# Altium footprint library yousefIbrahim&ZyadTarekPCB1.PcbLib: 18 footprints (part 1 of 2)
Each footprint in its own frame and in the unit in brackets; x right, y up, seen from the top. Pads: shape width x height; smd on the part's side, far side on the other; paste and mask are expansions set on the pad; w line width, h text height; cw(c..) or ccw(c..) is an arc to the next point about the centre after c.
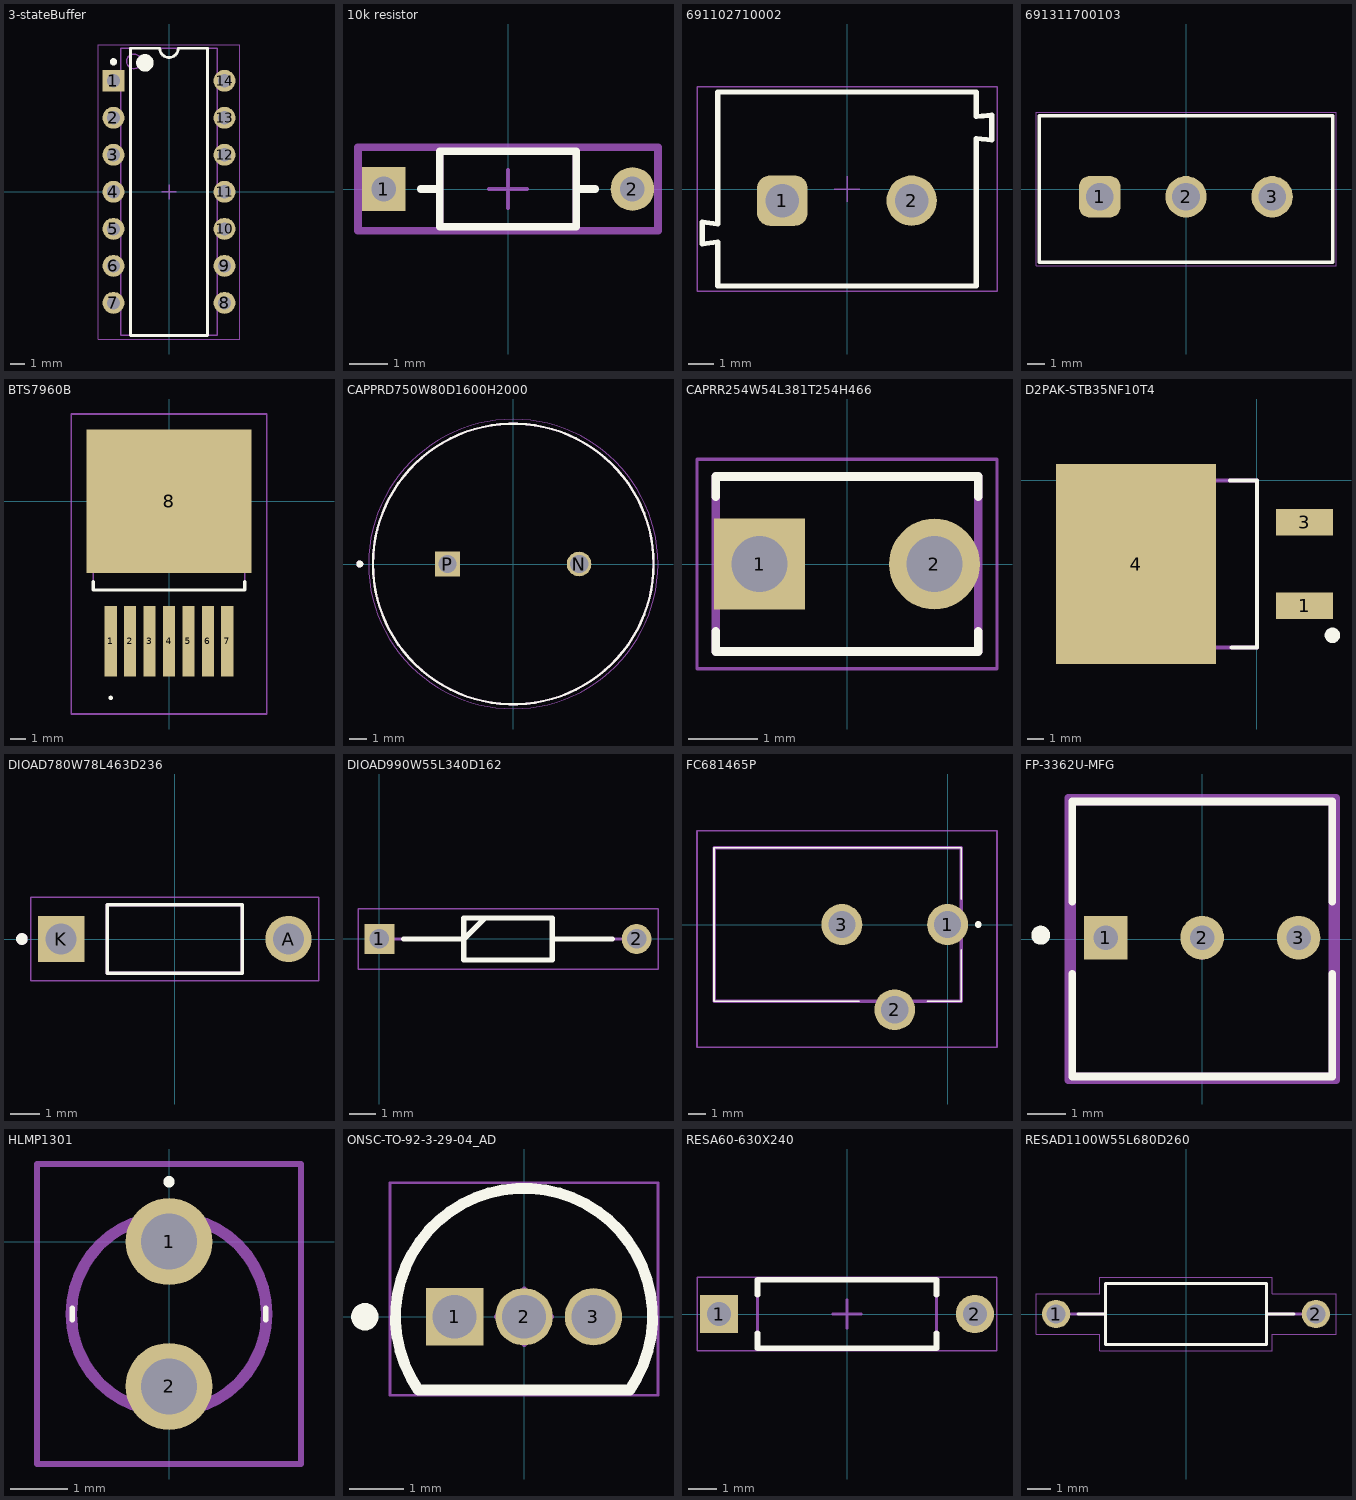
[diagram p0: the footprints below, top view; thin cyan lines are the x and y axes]

## 3-stateBuffer [mm]
pads (14):
  rect 1.5x1.5 hole 0.9: 1(-3.81,7.62)
  round 1.5 hole 0.9: 2(-3.81,5.08) 3(-3.81,2.54) 4(-3.81,0) 5(-3.81,-2.54) 6(-3.81,-5.08) 7(-3.81,-7.62) 8(3.81,-7.62) 9(3.81,-5.08) 10(3.81,-2.54) 11(3.81,0) 12(3.81,2.54) 13(3.81,5.08) 14(3.81,7.62)
Top Overlay:
  circle w0.25: c-3.81,8.92 r0.125
  circle w0.6: c-1.65,8.85 r0.3
  lines w0.2: -2.65,-9.85 -2.65,9.85 -0.635,9.85 ccw(c0,9.85) 0.635,9.85 2.65,9.85 2.65,-9.85 -2.65,-9.85
Mechanical 1:
  text ".Designator" at -3.048,-0.508 h1.2
Mechanical 13:
  circle w0.1: c-2.4,8.95 r0.5
  lines w0.1: -3.3,-9.85 -3.3,9.85 3.3,9.85 3.3,-9.85 -3.3,-9.85
Mechanical 15:
  lines w0.05: -4.85,-10.1 -4.85,10.1 4.85,10.1 4.85,-10.1 -4.85,-10.1
  lines w0.1: -0.5,0 0.5,0 ; 0,-0.5 0,0.5
3D body: height 2.66, standoff 0, extent -3.945,7.12 -3.675,8.12
3D body: height 2.93, standoff 2.66, extent -3.945,7.12 -3.3,8.12
3D body: height 0, standoff -1.6, extent -3.945,7.26 -3.675,7.98
3D body: height 2.66, standoff 0, extent -3.945,4.58 -3.675,5.58
3D body: height 2.93, standoff 2.66, extent -3.945,4.58 -3.3,5.58
3D body: height 0, standoff -1.6, extent -3.945,4.72 -3.675,5.44
3D body: height 2.66, standoff 0, extent -3.945,2.04 -3.675,3.04
3D body: height 2.93, standoff 2.66, extent -3.945,2.04 -3.3,3.04
3D body: height 0, standoff -1.6, extent -3.945,2.18 -3.675,2.9
3D body: height 2.66, standoff 0, extent -3.945,-0.5 -3.675,0.5
3D body: height 2.93, standoff 2.66, extent -3.945,-0.5 -3.3,0.5
3D body: height 0, standoff -1.6, extent -3.945,-0.36 -3.675,0.36
3D body: height 2.66, standoff 0, extent -3.945,-3.04 -3.675,-2.04
3D body: height 2.93, standoff 2.66, extent -3.945,-3.04 -3.3,-2.04
3D body: height 0, standoff -1.6, extent -3.945,-2.9 -3.675,-2.18
3D body: height 2.66, standoff 0, extent -3.945,-5.58 -3.675,-4.58
3D body: height 2.93, standoff 2.66, extent -3.945,-5.58 -3.3,-4.58
3D body: height 0, standoff -1.6, extent -3.945,-5.44 -3.675,-4.72
3D body: height 2.66, standoff 0, extent -3.945,-8.12 -3.675,-7.12
3D body: height 2.93, standoff 2.66, extent -3.945,-8.12 -3.3,-7.12
3D body: height 0, standoff -1.6, extent -3.945,-7.98 -3.675,-7.26
3D body: height 2.66, standoff 0, extent 3.675,-8.12 3.945,-7.12
3D body: height 2.93, standoff 2.66, extent 3.3,-8.12 3.945,-7.12
3D body: height 0, standoff -1.6, extent 3.675,-7.98 3.945,-7.26
3D body: height 2.66, standoff 0, extent 3.675,-5.58 3.945,-4.58
3D body: height 2.93, standoff 2.66, extent 3.3,-5.58 3.945,-4.58
3D body: height 0, standoff -1.6, extent 3.675,-5.44 3.945,-4.72
3D body: height 2.66, standoff 0, extent 3.675,-3.04 3.945,-2.04
3D body: height 2.93, standoff 2.66, extent 3.3,-3.04 3.945,-2.04
3D body: height 0, standoff -1.6, extent 3.675,-2.9 3.945,-2.18
3D body: height 2.66, standoff 0, extent 3.675,-0.5 3.945,0.5
3D body: height 2.93, standoff 2.66, extent 3.3,-0.5 3.945,0.5
3D body: height 0, standoff -1.6, extent 3.675,-0.36 3.945,0.36
3D body: height 2.66, standoff 0, extent 3.675,2.04 3.945,3.04
3D body: height 2.93, standoff 2.66, extent 3.3,2.04 3.945,3.04
3D body: height 0, standoff -1.6, extent 3.675,2.18 3.945,2.9
3D body: height 2.66, standoff 0, extent 3.675,4.58 3.945,5.58
3D body: height 2.93, standoff 2.66, extent 3.3,4.58 3.945,5.58
3D body: height 0, standoff -1.6, extent 3.675,4.72 3.945,5.44
3D body: height 2.66, standoff 0, extent 3.675,7.12 3.945,8.12
3D body: height 2.93, standoff 2.66, extent 3.3,7.12 3.945,8.12
3D body: height 0, standoff -1.6, extent 3.675,7.26 3.945,7.98
3D body: height 5.08, standoff 0.51, extent -3.3,-9.85 3.3,9.85

## 10k resistor [mm]
pads (2):
  rect 1.15x1.15 hole 0.65 paste-2539.97 mask+0: 1(-3.28,0)
  round 1.15 hole 0.65 paste-2539.97 mask+0: 2(3.28,0)
Top Overlay:
  lines w0.2: -2.305,0 -1.8,0 ; 1.8,0 2.305,0 ; -1.8,-1 -1.8,1 1.8,1 1.8,-1 -1.8,-1
Top 3D Body:
  lines w0.2: -1.8,-1 -1.8,1 1.8,1 1.8,-1 -1.8,-1
Top Courtyard:
  lines w0.2: -3.955,-1.1 -3.955,1.1 3.955,1.1 3.955,-1.1 -3.955,-1.1
Top Assembly:
  lines w0.2: -3.955,-1.1 -3.955,1.1 3.955,1.1 3.955,-1.1 -3.955,-1.1
  text ".Designator" at 0,0.188 h1
Top Component Center:
  lines w0.1: -0.5,0 0.5,0 ; 0,-0.5 0,0.5
3D body "Res_Stackpole_Electronics_CF18JT10K0_eec.STEP": height 0.25, standoff 0, extent -3.955,-1.1 3.955,1.1

## 691102710002 [mm]
pads (2):
  rrect50% 1.95x1.95 hole 1.3: 1(-2.5,-0.45)
  round 1.95 hole 1.3: 2(2.5,-0.45)
Top Overlay:
  lines w0.2: -5.6,-2.125 -5,-2.05 -5,-3.75 5,-3.75 5,1.95 5.6,1.9 5.6,2.85 5,2.8 5,3.75 -5,3.75 -5,-1.35 -5.6,-1.275 -5.6,-2.125
Top 3D Body:
  lines w0.1: -5.6,-2.125 -5,-2.05 -5,-3.75 5,-3.75 5,1.95 5.6,1.9 5.6,2.85 5,2.8 5,3.75 -5,3.75 -5,-1.35 -5.6,-1.275 -5.6,-2.125
Top Courtyard:
  lines w0.05: -5.8,-3.95 5.8,-3.95 5.8,3.95 -5.8,3.95 -5.8,-3.95
Top Designator:
  text ".Designator" at -7.498,-0.5 h1.5
Top Component Outline:
  lines w0.1: -5.6,-2.125 -5.6,-1.275 -5,-1.35 -5,3.75 5,3.75 5,2.8 5.6,2.85 5.6,1.9 5,1.95 5,-3.75 -5,-3.75 -5,-2.05 -5.6,-2.125
Top Component Center:
  lines w0.05: -0.5,0 0.5,0 ; 0,-0.5 0,0.5
3D body "691102710002.stp": height 9.96, standoff -3.44, extent -5.6,-3.75 5.6,3.75

## 691311700103 [mm]
pads (3):
  rrect50% 2.4x2.4 hole 1.6: 1(-5,-0.45)
  round 2.4 hole 1.6: 2(0,-0.45) 3(5,-0.45)
Top Overlay:
  lines w0.2: -8.5,-4.25 8.5,-4.25 8.5,4.25 -8.5,4.25 -8.5,-4.25
Top 3D Body:
  lines w0.1: -8.5,-4.25 8.5,-4.25 8.5,4.25 -8.5,4.25 -8.5,-4.25
Top Courtyard:
  lines w0.05: -8.7,-4.45 -8.7,4.45 8.7,4.45 8.7,-4.45 -8.7,-4.45
Top Designator:
  text ".Designator" at -7.498,-0.5 h1.5
Top Component Outline:
  lines w0.1: -8.5,-4.25 -8.5,4.25 8.5,4.25 8.5,-4.25 -8.5,-4.25
Top Component Center:
  lines w0.05: -0.5,0 0.5,0 ; 0,-0.5 0,0.5
3D body "691311700103.stp": height 12.1, standoff -3.9, extent -8.5,-4.25 8.5,4.25

## BTS7960B [mm]
pads (8):
  rect 0.8x4.6 smd: 1(-3.81,-9.15) 2(-2.54,-9.15) 3(-1.27,-9.15) 4(0,-9.15) 5(1.27,-9.15) 6(2.54,-9.15) 7(3.81,-9.15)
  rect 10.8x9.4 smd: 8(0,0)
Top Overlay:
  lines w0.2: -3.81,-12.9 ccw(c-3.81,-12.85) -3.81,-12.8 ; -3.81,-12.9 cw(c-3.81,-12.85) -3.81,-12.8 ; -3.81,-12.9 ccw(c-3.81,-12.85) -3.81,-12.8 ; 4.95,-5.8 -4.95,-5.8 4.95,-5.8 ; 4.95,-5.8 4.95,-5.25 4.95,-5.8 ; -4.95,-5.75 -4.95,-5.25 -4.95,-5.75
Mechanical 13:
  lines w0.1: -4.95,-5.8 4.95,-5.8 4.95,3.4 -4.95,3.4 -4.95,-5.8
Mechanical 15:
  lines w0.1: -6.4,-13.9 6.4,-13.9 6.4,5.7 -6.4,5.7 -6.4,-13.9
3D body "BTS7960B.stp": height 4.4, standoff 0, extent -4.95,-10.74 4.95,4.16

## CAPPRD750W80D1600H2000 [mm]
pads (2):
  round 1.4 hole 1.05: N(3.75,0)
  rect 1.4x1.4 hole 1.05: P(-3.75,0)
Top Overlay:
  circle w0.2: c-8.75,0 r0.1
  circle w0.127: c0,0 r8
Mechanical 13:
  circle w0.2: c-8.75,0 r0.1
  circle w0.127: c0,0 r8
Mechanical 15:
  circle w0.05: c0,0 r8.25
3D body "step_temp.STEP": height 20, standoff -17, extent -8,-7.999 8,7.999

## CAPRR254W54L381T254H466 [mm]
pads (2):
  rect 1.318x1.318 / inner round 1.318 / far side rect 1.318x1.318 hole 0.81: 1(-1.27,0)
  round 1.318 hole 0.81: 2(1.27,0)
Top Overlay:
  lines w0.127: -1.905,-0.979 -1.905,-1.27 1.905,-1.27 1.905,-0.979 ; -1.905,0.979 -1.905,1.27 1.905,1.27 1.905,0.979
Mechanical 13:
  lines w0.127: -1.905,-1.27 1.905,-1.27 1.905,1.27 -1.905,1.27 -1.905,-1.27
Mechanical 15:
  lines w0.05: -2.179,-1.52 2.179,-1.52 2.179,1.52 -2.179,1.52 -2.179,-1.52

## D2PAK-STB35NF10T4 [mm]
pads (3):
  rect 3.5x1.6 smd: 1(2.904,-7.64) 3(2.904,-2.56)
  rect 9.75x12.2 smd: 4(-7.371,-5.1)
Top Overlay:
  circle w0.5: c4.603,-9.449 r0.219
  lines w0.254: -1.644,0 0,0 0,-10.2 -1.535,-10.2
Mechanical 13:
  lines w0.254: -9.15,-10.2 -9.15,0 0,0 0,-10.2 -9.15,-10.2
3D body "L7805ABD2T-TR.stp": height 4.6, standoff 0, extent -11.645,-10.282 4.247,0.082

## DIOAD780W78L463D236 [mm]
pads (2):
  round 1.59 hole 1.06: A(3.905,0)
  rect 1.59x1.59 / inner round 1.59 / far side rect 1.59x1.59 hole 1.06: K(-3.905,0)
Top Overlay:
  circle w0.2: c-5.25,0 r0.1
  lines w0.127: -2.318,-1.18 -2.318,1.18 2.318,1.18 2.318,-1.18 -2.318,-1.18
Mechanical 13:
  circle w0.2: c-5.25,0 r0.1
  lines w0.127: -2.318,-1.18 -2.318,1.18 2.318,1.18 2.318,-1.18 -2.318,-1.18
Mechanical 15:
  lines w0.05: -4.949,-1.43 4.949,-1.43 4.949,1.43 -4.949,1.43 -4.949,-1.43
3D body "step_temp.STEP": height 2.69, standoff -21.77, extent -5.474,-1.346 5.474,1.346

## DIOAD990W55L340D162 [mm]
pads (2):
  rect 1.15x1.15 hole 0.75: 1(0,0)
  round 1.15 hole 0.75: 2(9.9,0)
Top Overlay:
  lines w0.2: 0.925,0 3.25,0 4.062,0.812 ; 6.65,0 8.975,0 ; 3.25,-0.812 3.25,0.812 6.65,0.812 6.65,-0.812 3.25,-0.812
Mechanical 13:
  lines w0.1: 0,0 3.25,0 4.062,0.812 ; 6.65,0 9.9,0 ; 3.25,-0.813 3.25,0.812 6.65,0.812 6.65,-0.813 3.25,-0.813
Mechanical 15:
  lines w0.05: -0.825,-1.163 -0.825,1.162 10.725,1.162 10.725,-1.163 -0.825,-1.163
3D body "1N4148B.stp": height 1.75, standoff -1.75, extent -0.275,-0.869 10.175,0.869

## FC681465P [mm]
pads (3):
  round 2.4 hole 1.6: 1(0,0) 2(-3.1,-5) 3(-6.2,0)
Top Overlay:
  lines w0.1: -5.2,-4.5 -13.7,-4.5 -13.7,4.5 0.8,4.5 0.8,1.5 ; -1.2,-4.5 0.8,-4.5 0.8,-1.5
  lines w0.2: 1.8,-0.1 cw(c1.8,0) 1.8,0.1 cw(c1.8,0) 1.8,-0.1
Mechanical 13:
  lines w0.2: -13.7,-4.5 0.8,-4.5 0.8,4.5 -13.7,4.5 -13.7,-4.5
Mechanical 15:
  lines w0.1: -14.7,-7.2 2.9,-7.2 2.9,5.5 -14.7,5.5 -14.7,-7.2
3D body "FC681465P.stp": height 11.1, standoff -5, extent -13.7,-5.695 0.8,4.5

## FP-3362U-MFG [mm]
pads (3):
  rect 1.15x1.15 hole 0.65 paste-2539.97 mask+0: 1(-2.54,0.035)
  round 1.15 hole 0.65 paste-2539.97 mask+0: 2(0,0.035) 3(2.54,0.035)
Top Overlay:
  circle w0.25: c-4.25,0.1 r0.125
  lines w0.2: -3.425,-0.915 -3.425,-3.62 3.425,-3.62 3.425,-0.915 ; -3.425,0.985 -3.425,3.62 3.425,3.62 3.425,0.985
Top 3D Body:
  lines w0.2: -3.425,-3.62 3.425,-3.62 3.425,3.62 -3.425,3.62 -3.425,-3.62
Top Courtyard:
  lines w0.2: -3.525,-3.72 3.525,-3.72 3.525,3.72 -3.525,3.72 -3.525,-3.72
Top Assembly:
  lines w0.2: -3.525,-3.72 3.525,-3.72 3.525,3.72 -3.525,3.72 -3.525,-3.72
  text ".Designator" at 0,0 h1
Top Component Center:
  lines w0.1: -0.5,0 0.5,0 ; 0,-0.5 0,0.5
3D body "Res_Bourns_3362U-1-204LF_eec.STEP": height 0.25, standoff 0, extent -3.525,-3.72 3.525,3.72

## HLMP1301 [mil]
pads (2):
  round 60 hole 38.58: 1(0,0) 2(0,-100)
Top Overlay:
  lines w3.94: -66.93,-53.94 -66.93,-46.06 ; 66.93,-53.94 66.93,-46.06 ; 0,39.37 cw(c0,41.34) 0,43.31 cw(c0,41.34) 0,39.37
Mechanical 13:
  lines w7.87: 0,-117.52 ccw(c0,-50) 0,17.52 ccw(c0,-50) 0,-117.52
Mechanical 15:
  lines w3.94: -91.14,-153.62 -91.14,53.62 91.14,53.62 91.14,-153.62 -91.14,-153.62
3D body "HLMP-1301.stp": height 446.46, standoff -812.2, extent -67.52,-117.72 67.52,17.72

## ONSC-TO-92-3-29-04_AD [mm]
pads (3):
  rect 1.05x1.05 hole 0.8: 1(-1.27,0)
  round 1.05 hole 0.8: 2(0,0) 3(1.27,0)
Top Overlay:
  circle w0.25: c-2.911,0 r0.125
  lines w0.2: -1.933,-1.337 cw(c0,0) 1.933,-1.337 -1.933,-1.337
Mechanical 13:
  lines w0.1: -1.933,-1.337 cw(c0,0) 1.933,-1.337 ; -1.933,-1.335 1.933,-1.335
Mechanical 15:
  lines w0.05: -2.45,-1.435 -2.45,2.45 2.45,2.45 2.45,-1.435 -2.45,-1.435
  lines w0.1: -0.5,0 0.5,0 ; 0,-0.5 0,0.5
3D body: height 5.33, standoff 2.54, extent -2.357,-1.335 2.349,2.359

## RESA60-630X240 [mm]
pads (2):
  rect 1.35x1.35 hole 0.85: 1(-4.5,0)
  round 1.35 hole 0.85: 2(4.5,0)
Top Overlay:
  lines w0.2: -3.15,-0.674 -3.15,-1.2 3.15,-1.2 3.15,-0.674 ; -3.15,0.674 -3.15,1.2 3.15,1.2 3.15,0.674
Mechanical 13:
  lines w0.1: -3.15,-1.2 -3.15,1.2 3.15,1.2 3.15,-1.2 -3.15,-1.2
Mechanical 15:
  lines w0.05: -5.275,-1.3 5.275,-1.3 5.275,1.3 -5.275,1.3 -5.275,-1.3
  lines w0.1: -0.5,0 0.5,0 ; 0,-0.5 0,0.5
3D body: height 2.4, standoff 0, extent -3.15,-1.191 3.15,1.2
3D body: height 1.48, standoff 0.92, extent -4.775,-0.273 -4.225,0.273
3D body: height 1.47, standoff 0.92, extent -4.5,-0.275 -3.15,0.274
3D body: height 1.2, standoff -2, extent -4.773,-0.275 -4.225,0.274
3D body: height 1.2, standoff -2, extent 4.225,-0.274 4.773,0.275
3D body: height 1.47, standoff 0.92, extent 3.15,-0.274 4.5,0.275
3D body: height 1.48, standoff 0.92, extent 4.225,-0.273 4.775,0.273

## RESAD1100W55L680D260 [mm]
pads (2):
  round 1.2 hole 0.8: 1(-5.5,0) 2(5.5,0)
Top Overlay:
  lines w0.127: -4.58,0 -3.4,0 ; 4.58,0 3.4,0 ; -3.4,0 -3.4,1.3 3.4,1.3 3.4,0 ; -3.4,0 -3.4,-1.3 3.4,-1.3 3.4,0
Mechanical 13:
  lines w0.127: -4.9,0 -3.4,0 ; 4.9,0 3.4,0 ; -3.4,0 -3.4,1.3 3.4,1.3 3.4,0 ; -3.4,0 -3.4,-1.3 3.4,-1.3 3.4,0
Mechanical 15:
  lines w0.05: -6.35,-0.85 -3.65,-0.85 -3.65,-1.55 3.65,-1.55 3.65,-0.85 6.35,-0.85 6.35,0.85 3.65,0.85 3.65,1.55 -3.65,1.55 -3.65,0.85 -6.35,0.85 -6.35,-0.85
3D body "step_temp.STEP": height 2.6, standoff -25.53, extent -5.775,-1.3 5.775,1.3